# Altium schematic symbol library 2 Pin Rocker Switch.SchLib: 1 symbol
Pins are listed as number, name and electrical type; pins without a type are passive.

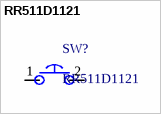
[diagram p0: symbol RR511D1121]

## RR511D1121
designator SW?
SWITCH ROCKER SPST 20A 125V
footprint RR511D1121 (SWITCH ROCKER SPST 20A 125V)
pins: 1, 2